# Altium schematic symbol library SCH - MCU - SI LABS - SI LABS BGM220SC22HNA 44-PIN LGA 6X6.SchLib: 1 symbol
Pins are listed as number, name and electrical type; pins without a type are passive.

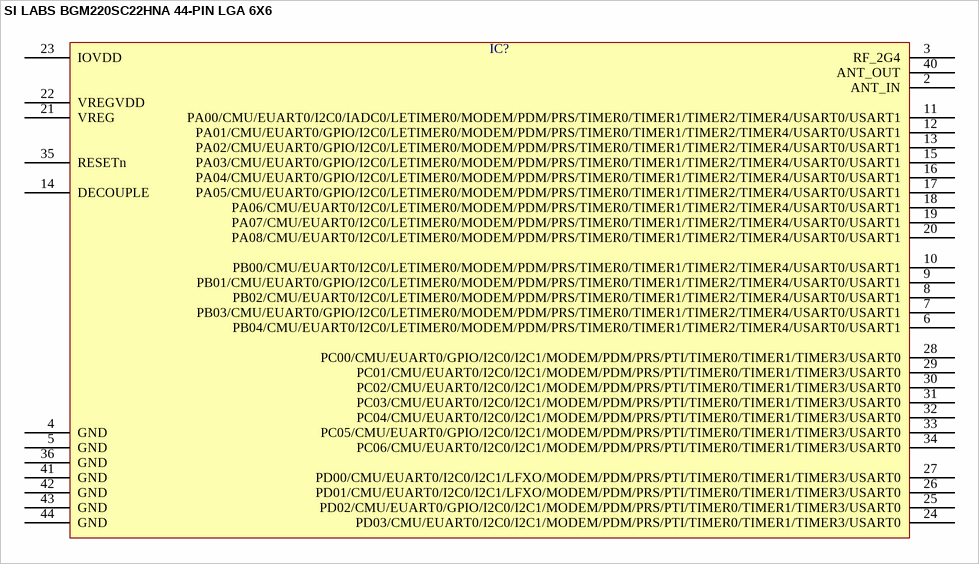
[diagram p0: symbol SI LABS BGM220SC22HNA 44-PIN LGA 6X6]

## SI LABS BGM220SC22HNA 44-PIN LGA 6X6
designator IC?  (value not drawn)
pins: 2 ANT_IN, 3 RF_2G4, 4 GND, 5 GND, 6 PB04/CMU/EUART0/I2C0/LETIMER0/MODEM/PDM/PRS/TIMER0/TIMER1/TIMER2/TIMER4/USART0/USART1, 7 PB03/CMU/EUART0/GPIO/I2C0/LETIMER0/MODEM/PDM/PRS/TIMER0/TIMER1/TIMER2/TIMER4/USART0/USART1, 8 PB02/CMU/EUART0/I2C0/LETIMER0/MODEM/PDM/PRS/TIMER0/TIMER1/TIMER2/TIMER4/USART0/USART1, 9 PB01/CMU/EUART0/GPIO/I2C0/LETIMER0/MODEM/PDM/PRS/TIMER0/TIMER1/TIMER2/TIMER4/USART0/USART1, 10 PB00/CMU/EUART0/I2C0/LETIMER0/MODEM/PDM/PRS/TIMER0/TIMER1/TIMER2/TIMER4/USART0/USART1, 11 PA00/CMU/EUART0/I2C0/IADC0/LETIMER0/MODEM/PDM/PRS/TIMER0/TIMER1/TIMER2/TIMER4/USART0/USART1, 12 PA01/CMU/EUART0/GPIO/I2C0/LETIMER0/MODEM/PDM/PRS/TIMER0/TIMER1/TIMER2/TIMER4/USART0/USART1, 13 PA02/CMU/EUART0/GPIO/I2C0/LETIMER0/MODEM/PDM/PRS/TIMER0/TIMER1/TIMER2/TIMER4/USART0/USART1, 14 DECOUPLE, 15 PA03/CMU/EUART0/GPIO/I2C0/LETIMER0/MODEM/PDM/PRS/TIMER0/TIMER1/TIMER2/TIMER4/USART0/USART1, 16 PA04/CMU/EUART0/GPIO/I2C0/LETIMER0/MODEM/PDM/PRS/TIMER0/TIMER1/TIMER2/TIMER4/USART0/USART1, 17 PA05/CMU/EUART0/GPIO/I2C0/LETIMER0/MODEM/PDM/PRS/TIMER0/TIMER1/TIMER2/TIMER4/USART0/USART1, 18 PA06/CMU/EUART0/I2C0/LETIMER0/MODEM/PDM/PRS/TIMER0/TIMER1/TIMER2/TIMER4/USART0/USART1, 19 PA07/CMU/EUART0/I2C0/LETIMER0/MODEM/PDM/PRS/TIMER0/TIMER1/TIMER2/TIMER4/USART0/USART1, 20 PA08/CMU/EUART0/I2C0/LETIMER0/MODEM/PDM/PRS/TIMER0/TIMER1/TIMER2/TIMER4/USART0/USART1, 21 VREG, 22 VREGVDD, 23 IOVDD, 24 PD03/CMU/EUART0/I2C0/I2C1/MODEM/PDM/PRS/PTI/TIMER0/TIMER1/TIMER3/USART0, 25 PD02/CMU/EUART0/GPIO/I2C0/I2C1/MODEM/PDM/PRS/PTI/TIMER0/TIMER1/TIMER3/USART0, 26 PD01/CMU/EUART0/I2C0/I2C1/LFXO/MODEM/PDM/PRS/PTI/TIMER0/TIMER1/TIMER3/USART0, 27 PD00/CMU/EUART0/I2C0/I2C1/LFXO/MODEM/PDM/PRS/PTI/TIMER0/TIMER1/TIMER3/USART0, 28 PC00/CMU/EUART0/GPIO/I2C0/I2C1/MODEM/PDM/PRS/PTI/TIMER0/TIMER1/TIMER3/USART0, 29 PC01/CMU/EUART0/I2C0/I2C1/MODEM/PDM/PRS/PTI/TIMER0/TIMER1/TIMER3/USART0, 30 PC02/CMU/EUART0/I2C0/I2C1/MODEM/PDM/PRS/PTI/TIMER0/TIMER1/TIMER3/USART0, 31 PC03/CMU/EUART0/I2C0/I2C1/MODEM/PDM/PRS/PTI/TIMER0/TIMER1/TIMER3/USART0, 32 PC04/CMU/EUART0/I2C0/I2C1/MODEM/PDM/PRS/PTI/TIMER0/TIMER1/TIMER3/USART0, 33 PC05/CMU/EUART0/GPIO/I2C0/I2C1/MODEM/PDM/PRS/PTI/TIMER0/TIMER1/TIMER3/USART0, 34 PC06/CMU/EUART0/I2C0/I2C1/MODEM/PDM/PRS/PTI/TIMER0/TIMER1/TIMER3/USART0, 35 RESETn, 36 GND, 40 ANT_OUT, 41 GND, 42 GND, 43 GND, 44 GND